# EAGLE library part TRHEI202-2X18 (library transformatory)
Transformátor 2x18V
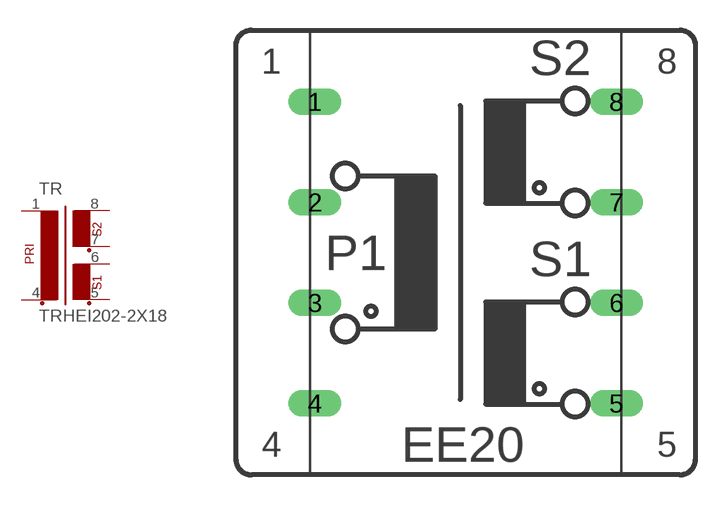
[diagram p14: symbol with the pads of EE20-2; footprint EE20-2]

Designator prefix TR

## TRHEI202-2X18  [EE20-2]
1  1  pas
4  2  pas
5  3  pas
6  4  pas
7  5  pas
8  6  pas

## Footprint EE20-2 (pad centres in mm)
TRANSFORMER 1 primary winding, 2 secondary winding
drill 0.813 long: 1 -7.5,7.5; 2 -7.5,2.5; 3 -7.5,-2.5; 4 -7.5,-7.5; 5 7.5,-7.5; 6 7.5,-2.5; 7 7.5,2.5; 8 7.5,7.5